# Altium footprint library SOT563.PcbLib: 1 footprints
Each footprint in its own frame and in the unit in brackets; x right, y up, seen from the top. Pads: shape width x height; smd on the part's side, far side on the other; paste and mask are expansions set on the pad; w line width, h text height; cw(c..) or ccw(c..) is an arc to the next point about the centre after c.
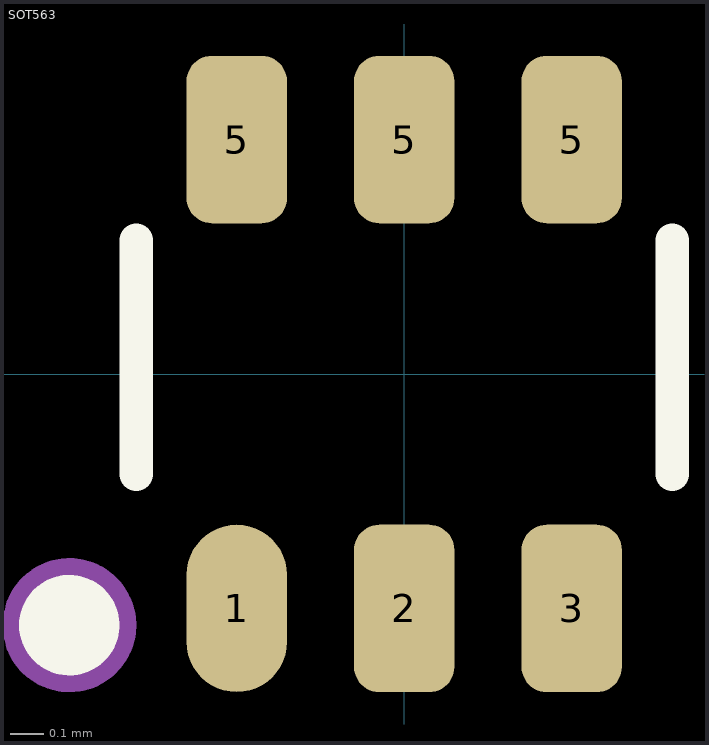
[diagram p0: the footprint, top view; thin cyan lines are the x and y axes]

## SOT563 [mm] "SOT-323/SC-70; 3 Leads; Body 2.2 x 2.2 mm, inc. leads (LxW max)"
height 1
pads (6):
  oval 0.3x0.5 smd: 1(-0.5,-0.7)
  rrect50% 0.3x0.5 smd: 2(0,-0.7) 3(0.5,-0.7) 5(-0.5,0.7) 5(0,0.7) 5(0.5,0.7)
Top Overlay:
  circle w0.15: c-1,-0.75 r0.075
  lines w0.1: -0.8,-0.3 -0.8,0.4 ; 0.8,-0.3 0.8,0.4
Top Assembly:
  circle w0.2: c-1,-0.75 r0.1
3D body "SOT563.STEP": height 0.58, standoff 0, extent -0.8,-0.813 0.8,0.813